# EAGLE library part RPIGPIOPINHD-2X5-SMD-FLIPPED (library pimoroni)
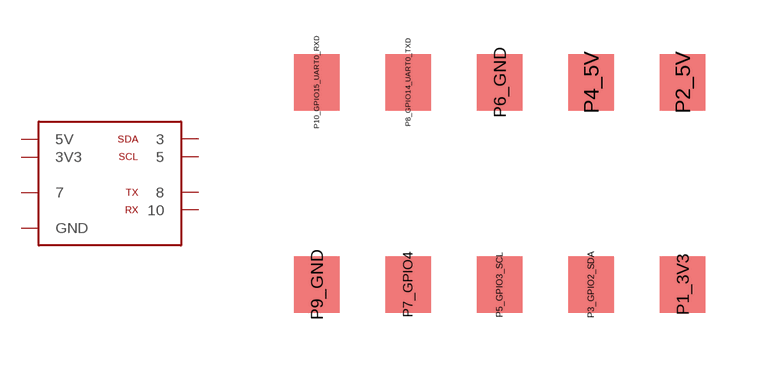
[diagram p1: symbol with the pads of FCI_89898_313LF_10P_CONNECTOR_SMT_FLIPPED; footprint FCI_89898_313LF_10P_CONNECTOR_SMT_FLIPPED]

Designator prefix -

## RPIGPIOPINHD-2X5-SMD-FLIPPED  [FCI_89898_313LF_10P_CONNECTOR_SMT_FLIPPED]
P1_3V3  3V3  pwr
P2_5V  5V  pwr
P3_GPIO2_SDA  3
P4_5V  5V  pwr
P5_GPIO3_SCL  5
P6_GND  GND  pas
P7_GPIO4  7
P8_GPIO14_UART0_TXD  8
P9_GND  GND  pas
P10_GPIO15_UART0_RXD  10

## Footprint FCI_89898_313LF_10P_CONNECTOR_SMT_FLIPPED (pad centres in mm)
smd 1.27 x 1.57: P1_3V3 5.08,-2.81; P2_5V 5.08,2.81; P3_GPIO2_SDA 2.54,-2.81; P4_5V 2.54,2.81; P5_GPIO3_SCL 0,-2.81; P6_GND 0,2.81; P7_GPIO4 -2.54,-2.81; P8_GPIO14_UART0_TXD -2.54,2.81; P9_GND -5.08,-2.81; P10_GPIO15_UART0_RXD -5.08,2.81